# Altium schematic symbol library MF-FSMF035X-2.SchLib: 1 symbol
Pins are listed as number, name and electrical type; pins without a type are passive.

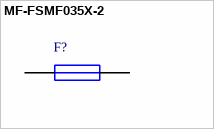
[diagram p0: symbol MF-FSMF035X-2]

## MF-FSMF035X-2
designator F?
PTC Resettable Fuse 0.35A(hold) 0.75A(trip) 6V 40A 0.5W 0.1s 0.2Ohm SMD Solder Pad 0603 T/R Automotive; Manufacturer_Name: Bourns; Geometry.Height: 0.65mm; Manufacturer_Part_Number: MF-FSMF035X-2; Mouser Part Number: 652-MFFSMF035X-2; Mouser Price/Stock: https://www.mouser.co.uk/ProductDetail/Bourns/MF-FSMF035X-2?qs=3QkGRBNOvbpDjaNFd4LZ8w%3D%3D; Arrow Part Number: MF-FSMF035X-2; Arrow Price/Stock: https://www.arrow.com/en/products/mf-fsmf035x-2/bourns?region=nac; Mouser Testing Part Number: *; Mouser Testing Price/Stock: *; Datasheet Link: https://www.arrow.com/en/products/mf-fsmf035x-2/bourns
footprint FUSC1608X65N
pins: 1, 2